# Altium schematic symbol library 2920L050_72DR.SchLib: 1 symbol
Pins are listed as number, name and electrical type; pins without a type are passive.

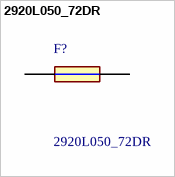
[diagram p0: symbol 2920L050_72DR]

## 2920L050_72DR
designator F?
Resettable Fuses - PPTC PTC 72V POLYFUSE SURF MOUNT 2920 0.50A; Manufacturer_Name: LITTELFUSE; Manufacturer_Part_Number: 2920L050/72DR; Geometry.Height: 1.25mm; Mouser Part Number: 576-2920L050/72DR; Mouser Price/Stock: https://www.mouser.co.uk/ProductDetail/Littelfuse/2920L050-72DR?qs=ST9lo4GX8V0DAh6PAk7A0Q%3D%3D; Datasheet Link: https://www.littelfuse.com/media?resourcetype=datasheets&itemid=f237e8c2-1ed9-4c13-a738-dbe0738b3d2c&filename=2920l-datasheet-update
footprint FUSC7451X125N
pins: 1, 2